# Altium footprint library PcbLib5.2.0.PcbLib: 26 footprints (part 1 of 2)
Each footprint in its own frame and in the unit in brackets; x right, y up, seen from the top. Pads: shape width x height; smd on the part's side, far side on the other; paste and mask are expansions set on the pad; w line width, h text height; cw(c..) or ccw(c..) is an arc to the next point about the centre after c.
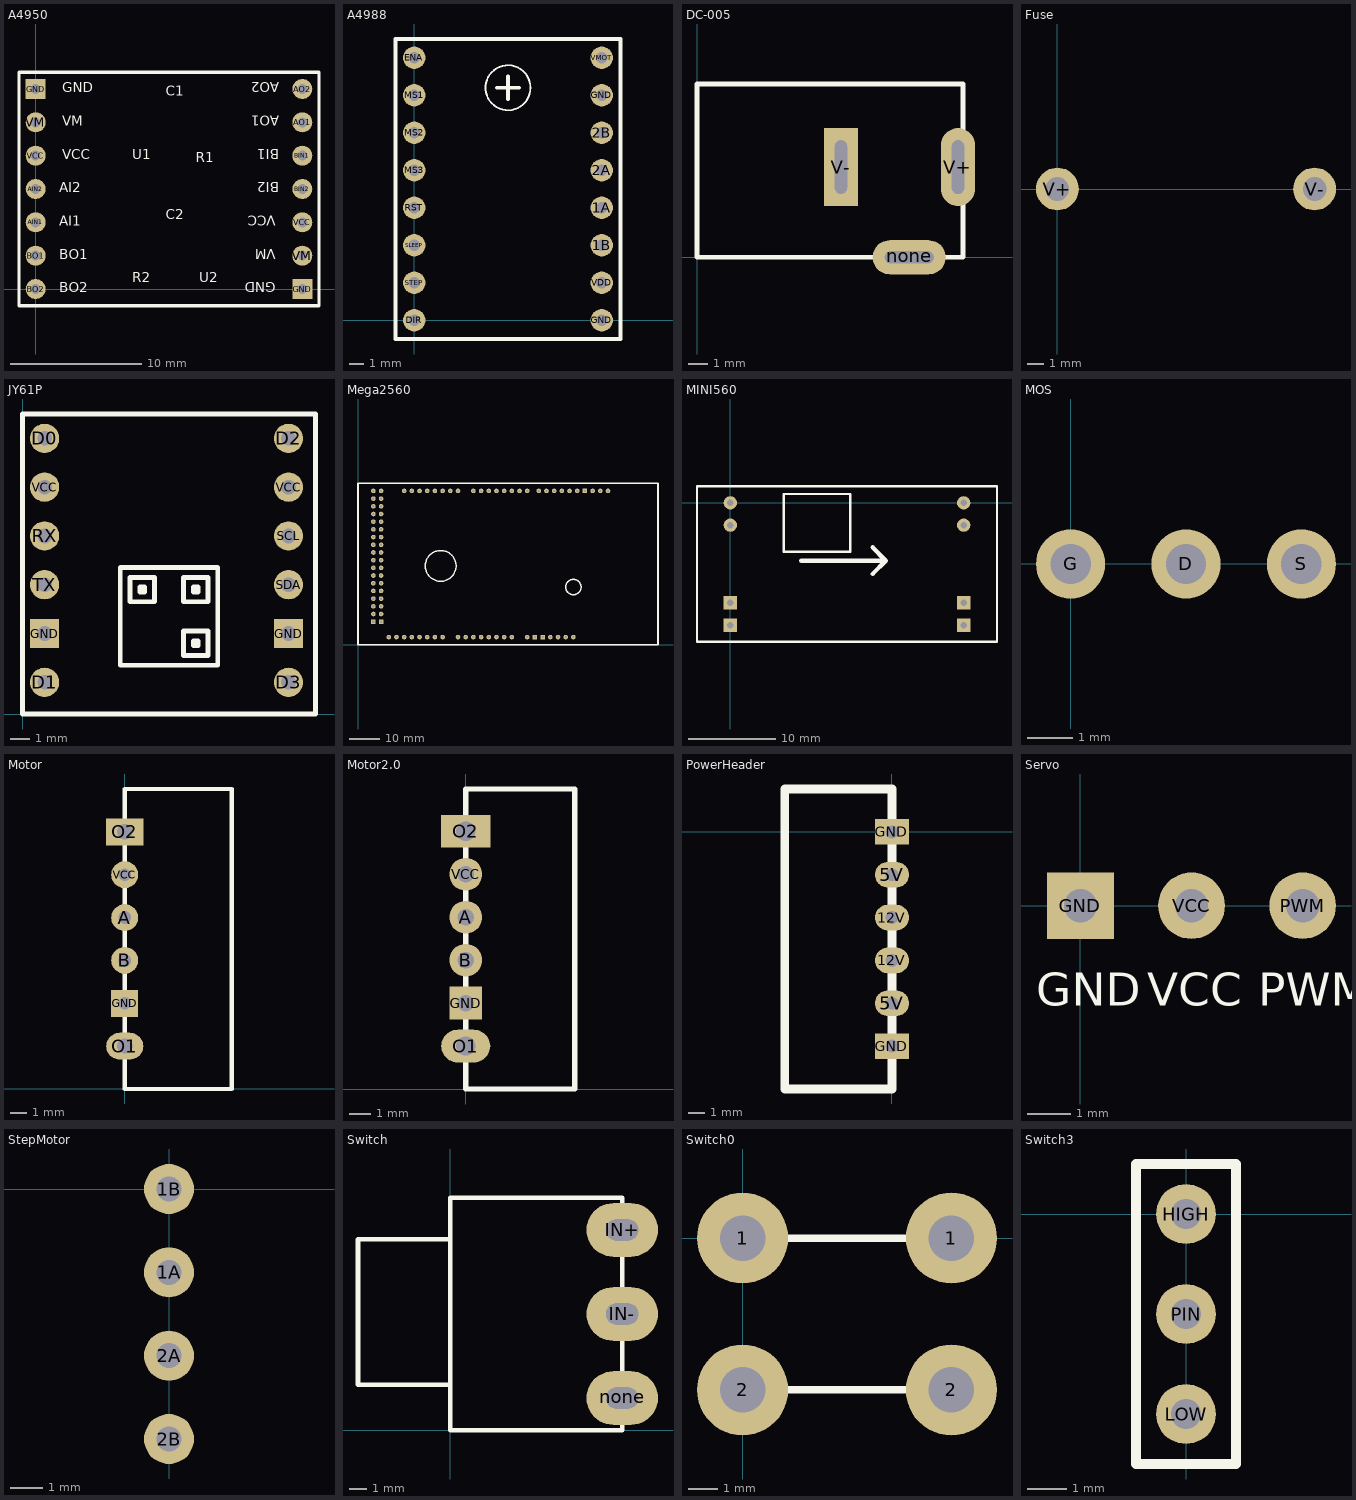
[diagram p0: the footprints below, top view; thin cyan lines are the x and y axes]

## A4950 [mil]
pads (14):
  round 60 hole 30: AIN1(0,200) AIN2(0,300) AO1(800,500) AO2(800,600) BIN1(800,400) BIN2(800,300) BO1(0,100) BO2(0,0) VCC(0,400) VCC(800,200) VM(0,500) VM(800,100)
  rect 60x60 hole 30: GND(0,600) GND(800,0)
Top Overlay:
  lines w10: -50,-50 -50,650 850,650 850,-50 -50,-50
  text "U1" at 290,390 h30
  text "R1" at 480,380 h30
  text "C2" at 390,210 h30
  text "R2" at 290,20 h30
  text "U2" at 490,20 h30
  text "C1" at 390,580 h30
  text "VM" at 80,490 h30
  text "VCC" at 80,390 h30
  text "GND" at 80,590 h30
  text "GND" at 720,20 h30
  text "VM" at 720,120 h30
  text "VCC" at 720,220 h30
  text "AI2" at 70,290 h30
  text "AI1" at 70,190 h30
  text "BO1" at 70,90 h30
  text "BO2" at 70,-10 h30
  text "BI2" at 730,320 h30
  text "BI1" at 730,420 h30
  text "AO1" at 730,520 h30
  text "AO2" at 730,620 h30

## A4988 [mil]
pads (16):
  round 60 hole 30: 1A(500,300) 1B(500,200) 2A(500,400) 2B(500,500) DIR(0,0) ENA(0,700) GND(500,0) GND(500,600) MS1(0,600) MS2(0,500) MS3(0,400) RST(0,300) SLEEP(0,200) STEP(0,100) VDD(500,100) VMOT(500,700)
Top Overlay:
  circle w5: c250,620 r60
  lines w10: 220,620 280,620 ; 250,590 250,650 ; -50,-50 550,-50 550,750 -50,750 -50,-50

## DC-005 [mil]
pads (3):
  oval 150x70 hole 25 slot 100 at 0 deg: none(435,0)
  oval 70x160 hole 25 slot 110 at 90 deg: V+(535,185)
  rect 70x160 hole 25 slot 110 at 90 deg: V-(295,185)
Top Overlay:
  lines w10: 0,0 0,355 545,355 545,0 0,0

## Fuse [mil] "保险丝"
pads (2):
  round 100 hole 55: V+(0,0) V-(600,0)

## JY61P [mil]
pads (12):
  round 60 hole 30: D0(45,565) D1(45,65) D2(545,565) D3(545,65) RX(45,365) SCL(545,365) SDA(545,265) TX(45,265) VCC(45,465) VCC(545,465)
  rect 60x60 hole 30: GND(45,165) GND(545,165)
Top Overlay:
  lines w10: 0,0 0,615 600,615 600,0 0,0 ; 200,100 400,100 400,300 200,300 200,100 ; 220,230 270,230 270,280 220,280 220,230 ; 240,250 250,250 250,260 240,260 240,250 ; 330,120 380,120 380,170 330,170 330,120 ; 330,230 380,230 380,280 330,280 330,230 ; 350,140 360,140 360,150 350,150 350,140 ; 350,250 360,250 360,260 350,260 350,250

## Mega2560 [mil] "单片机"
pads (85):
  round 60 hole 30: 3.3V(2600,100) 5V(200,2000) 5V(300,2000) 5V(2500,100) 5V(2800,100) A0(2000,100) A1(1900,100) A2(1800,100) A3(1700,100) A4(1600,100) A5(1500,100) A6(1400,100) A7(1300,100) A8(1100,100) A9(1000,100) A10(900,100) A11(800,100) A12(700,100) A13(600,100) A14(500,100) A15(400,100) AREF(3050,2000) D22(300,1900) D23(200,1900) D24(300,1800) D25(200,1800) D26(300,1700) D27(200,1700) D28(300,1600) D29(200,1600) D30(300,1500) D31(200,1500) D32(300,1400) D33(200,1400) D34(300,1300) D35(200,1300) D36(300,1200) D37(200,1200) D38(300,1100) D39(200,1100) D40(300,1000) D41(200,1000) D42(300,900) D43(200,900) D44(300,800) D45(200,800) D46(300,700) D47(200,700) D48(300,600) D49(200,600) D50(300,500) D51(200,500) D52(300,400) D53(200,400) P2(1700,2000) P3(1800,2000) P4(1900,2000) P5(2000,2000) P6(2100,2000) P7(2200,2000) P8(2350,2000) P9(2450,2000) P10(2550,2000) P11(2650,2000) P12(2750,2000) P13(2850,2000) RESET(2700,100) RX0(1500,2000) RX1(900,2000) RX2(1000,2000) RX3(1200,2000) SCL(3250,2000) SCL1(600,2000) SDA(3150,2000) SDA1(700,2000) TX0(1600,2000) TX1(800,2000) TX2(1100,2000) TX3(1300,2000) VIN(2200,100)
  rect 60x60 hole 30: GND(200,300) GND(300,300) GND(2300,100) GND(2400,100) GND(2950,2000)
Top Overlay:
  circle w20: c2800,750 r100
  circle w20: c1075,1025 r200
  lines w20: 0,0 3900,0 3900,2100 0,2100 0,0

## MINI560 [mil] "降压模块"
pads (8):
  rect 60x60 hole 30: GND(0,-550) GND(0,-450) GND(1050,-550) GND(1050,-450)
  round 60 hole 30: IN+(0,-100) IN+(0,0) OUT+(1050,-100) OUT+(1050,0)
Top Overlay:
  lines w10: -150,-625 -150,75 1200,75 1200,-625 -150,-625 ; 240,-220 540,-220 540,40 240,40 240,-220
  lines w20: 320,-260 700,-260 ; 640,-320 700,-260 ; 640,-200 700,-260

## MOS [mil]
pads (3):
  round 60 hole 35: D(100,0) G(0,0) S(200,0)

## Motor [mm]
pads (6):
  round 1.6 hole 0.762: A(0,10.16) B(0,7.62) VCC(0,12.7)
  rect 1.6x1.6 hole 0.762: GND(0,5.08)
  oval 2.2x1.6 hole 0.9: O1(0,2.54)
  rect 2.2x1.6 hole 0.92: O2(0,15.24)
Top Overlay:
  lines w0.254: 0,0 6.35,0 6.35,17.78 0,17.78 0,0

## Motor2.0 [mil]
pads (6):
  round 60 hole 30: A(0,314.96) B(0,236.22) VCC(0,393.7)
  rect 60x60 hole 30: GND(0,157.48)
  oval 90x60 hole 35.43: O1(0,78.74)
  rect 90x60 hole 36.22: O2(0,472.44)
Top Overlay:
  lines w10: 0,0 0,550 200,550 200,0 0,0

## PowerHeader [mil]
pads (6):
  oval 80x60 hole 30: 5V(0,-400) 5V(0,-100) 12V(0,-300) 12V(0,-200)
  rect 80x60 hole 30: GND(0,-500) GND(0,0)
Top Overlay:
  lines w20: -250,-600 -250,100 0,100 0,-600 -250,-600

## Servo [mil]
pads (3):
  rect 60x60 hole 30: GND(0,0)
  round 60 hole 30: PWM(200,0) VCC(100,0)
Top Overlay:
  text "GND" at -40,-90 h30
  text "VCC" at 60,-90 h30
  text "PWM" at 160,-90 h30

## StepMotor [mil]
pads (4):
  round 60 hole 30: 1A(0,-100) 1B(0,0) 2A(0,-200) 2B(0,-300)

## Switch [mm]
pads (3):
  oval 4x3 hole 1.2 slot 1.8 at 0 deg: IN+(9.601,11.2) IN-(9.601,6.5) none(9.601,1.8)
Top Overlay:
  lines w0.254: -5.169,10.668 -0.025,10.668 ; -5.169,10.69 -5.169,2.54 0,2.54 ; 0,0 9.601,0 9.601,13 0,13 0,0

## Switch0 [mil]
pads (4):
  round 120 hole 60: 1(0,0) 1(275,0) 2(0,-200) 2(275,-200)
Top Overlay:
  lines w10: 0,0 275.59,0 ; 3.15,-200 300,-200

## Switch3 [mil]
pads (3):
  round 60 hole 30: HIGH(0,0) LOW(0,-200) PIN(0,-100)
Top Overlay:
  lines w10: -50,-250 50,-250 50,50 -50,50 -50,-250